# EAGLE library part ER-TFT018-2 (library circuit_tree)
IC
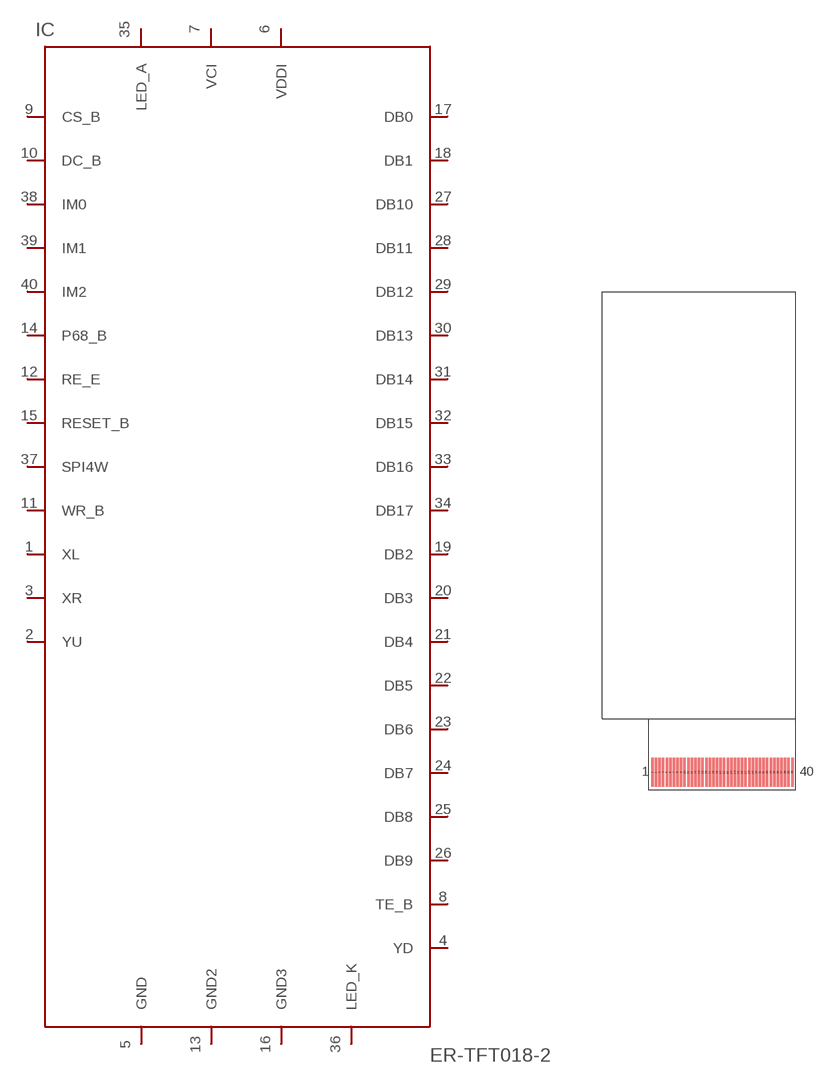
[diagram p2: symbol with the pads of ER-TFT018-2; footprint ER-TFT018-2]

Designator prefix IC

## ER-TFT018-2  [ER-TFT018-2]
1  XL  pas
2  YU  pas
3  XR  pas
4  YD  pas
5  GND  pas
6  VDDI  pas
7  VCI  pas
8  TE_B  pas
9  CS_B  pas
10  DC_B  pas
11  WR_B  pas
12  RE_E  pas
13  GND2  pas
14  P68_B  pas
15  RESET_B  pas
16  GND3  pas
17  DB0  pas
18  DB1  pas
19  DB2  pas
20  DB3  pas
21  DB4  pas
22  DB5  pas
23  DB6  pas
24  DB7  pas
25  DB8  pas
26  DB9  pas
27  DB10  pas
28  DB11  pas
29  DB12  pas
30  DB13  pas
31  DB14  pas
32  DB15  pas
33  DB16  pas
34  DB17  pas
35  LED_A  pas
36  LED_K  pas
37  SPI4W  pas
38  IM0  pas
39  IM1  pas
40  IM2  pas

## Footprint ER-TFT018-2 (pad centres in mm)
smd 0.35 x 4: 1 0,0; 2 0.5,0; 3 1,0; 4 1.5,0; 5 2,0; 6 2.5,0; 7 3,0; 8 3.5,0; 9 4,0; 10 4.5,0; 11 5,0; 12 5.5,0; 13 6,0; 14 6.5,0; 15 7,0; 16 7.5,0; 17 8,0; 18 8.5,0; 19 9,0; 20 9.5,0; 21 10,0; 22 10.5,0; 23 11,0; 24 11.5,0; 25 12,0; 26 12.5,0; 27 13,0; 28 13.5,0; 29 14,0; 30 14.5,0; 31 15,0; 32 15.5,0; 33 16,0; 34 16.5,0; 35 17,0; 36 17.5,0; 37 18,0; 38 18.5,0; 39 19,0; 40 19.5,0